# Altium schematic symbol library ACPL-C87.SchLib: 1 symbol
Pins are listed as number, name and electrical type; pins without a type are passive.

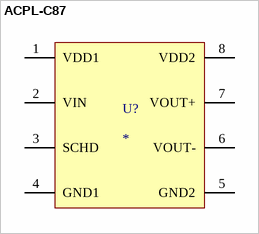
[diagram p0: symbol ACPL-C87]

## ACPL-C87
designator U?
footprint SSO-8 (SOP, 8-Leads, Body 5,85x6,81mm, Pitch 1,27mm, IPC Medium Density)
pins: 1 VDD1, 2 VIN, 3 SCHD, 4 GND1, 5 GND2, 6 VOUT-, 7 VOUT+, 8 VDD2